# EAGLE library part UDN2916LBTR-T (library Allegro_By_element14_Batch_1)
DUAL FULL-BRIDGE PWM MOTOR DRIVER
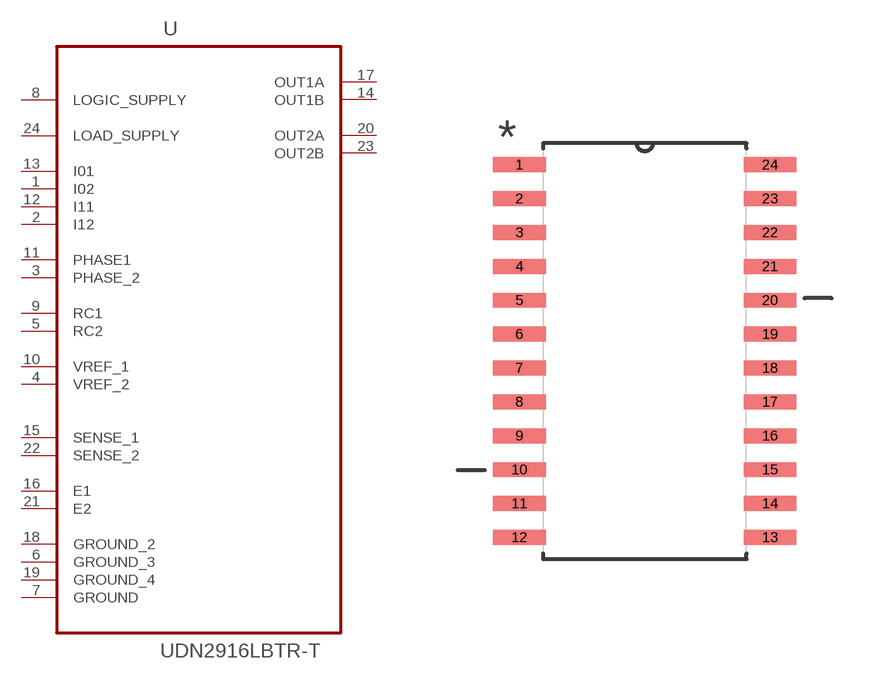
[diagram p37: symbol with the pads of SOIC127P1032X265-24N; footprint SOIC127P1032X265-24N]

Designator prefix U

## UDN2916LBTR-T (MPN: UDN2916LBTR-T; OC_FARNELL: 1707913; OC_NEWARK: 59P3286; PACKAGE: SOIC-24; SUPPLIER: ALLEGRO MICROSYSTEMS)  [SOIC127P1032X265-24N]
1  I02  in
2  I12  in
3  PHASE_2  in
4  VREF_2  in
5  RC2  in
6  GROUND_3  pas
7  GROUND  pas
8  LOGIC_SUPPLY  in
9  RC1  in
10  VREF_1  in
11  PHASE1  in
12  I11  in
13  I01  pas
14  OUT1B  out
15  SENSE_1  in
16  E1  in
17  OUT1A  out
18  GROUND_2  pas
19  GROUND_4  pas
20  OUT2A  out
21  E2  in
22  SENSE_2  in
23  OUT2B  out
24  LOAD_SUPPLY  pwr

## Footprint SOIC127P1032X265-24N (pad centres in mm)
smd 1.981 x 0.559: 1 -4.699,6.985; 2 -4.699,5.715; 3 -4.699,4.445; 4 -4.699,3.175; 5 -4.699,1.905; 6 -4.699,0.635; 7 -4.699,-0.635; 8 -4.699,-1.905; 9 -4.699,-3.175; 10 -4.699,-4.445; 11 -4.699,-5.715; 12 -4.699,-6.985; 13 4.699,-6.985; 14 4.699,-5.715; 15 4.699,-4.445; 16 4.699,-3.175; 17 4.699,-1.905; 18 4.699,-0.635; 19 4.699,0.635; 20 4.699,1.905; 21 4.699,3.175; 22 4.699,4.445; 23 4.699,5.715; 24 4.699,6.985